# Altium footprint library ANAREN_PD0409J7575S2HF.PcbLib: 2 footprints
Each footprint in its own frame and in the unit in brackets; x right, y up, seen from the top. Pads: shape width x height; smd on the part's side, far side on the other; paste and mask are expansions set on the pad; w line width, h text height; cw(c..) or ccw(c..) is an arc to the next point about the centre after c.
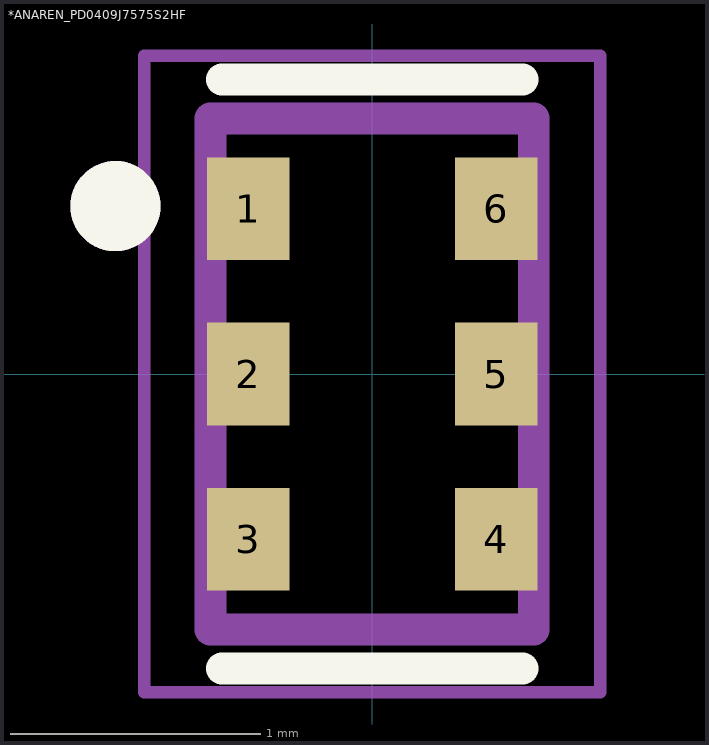
[diagram p0: the footprints below, top view; thin cyan lines are the x and y axes]

## *ANAREN_PD0409J7575S2HF [mm]
pads (6):
  rect 0.33x0.41 smd: 1(-0.495,0.66) 2(-0.495,0) 3(-0.495,-0.66) 4(0.495,-0.66) 5(0.495,0) 6(0.495,0.66)
Top Overlay:
  circle w0.3: c-1.025,0.67 r0.03
  lines w0.127: -0.6,-1.175 0.6,-1.175 ; -0.6,1.175 0.6,1.175
Mechanical 13:
  circle w0.3: c-1.025,0.67 r0.03
  circle w0.3: c-1.025,0.67 r0.03
  lines w0.127: -0.645,-1.02 -0.645,1.02 ; -0.645,-1.02 0.645,-1.02 ; -0.645,-1.02 -0.645,1.02 ; -0.645,-1.02 0.645,-1.02 ; -0.645,1.02 0.645,1.02 ; -0.645,1.02 0.645,1.02 ; 0.645,-1.02 0.645,1.02 ; 0.645,-1.02 0.645,1.02
Mechanical 15:
  lines w0.05: -0.91,-1.27 -0.91,1.27 0.91,1.27 0.91,-1.27 -0.91,-1.27

## PCBComponent_1 [mm]